# Altium footprint library 6U4dsp.PcbLib: 37 footprints (part 3 of 3)
Each footprint in its own frame and in the unit in brackets; x right, y up, seen from the top. Pads: shape width x height; smd on the part's side, far side on the other; paste and mask are expansions set on the pad; w line width, h text height; cw(c..) or ccw(c..) is an arc to the next point about the centre after c.
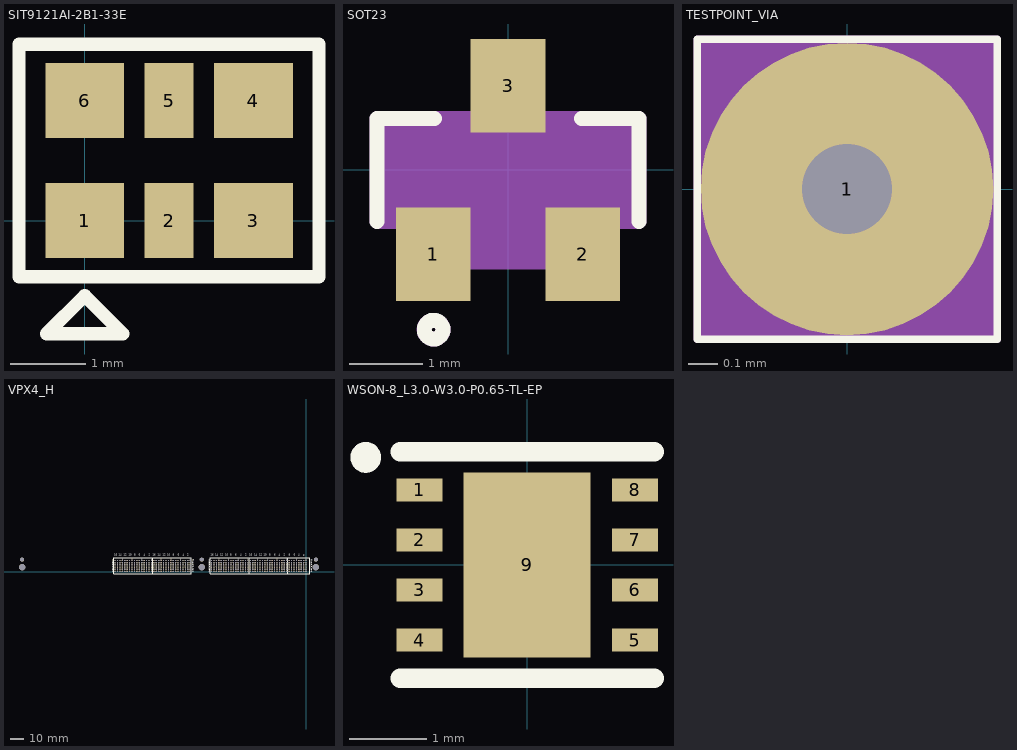
[diagram p2: the footprints below, top view; thin cyan lines are the x and y axes]

## SIT9121AI-2B1-33E [mm]
pads (6):
  rect 1.05x1 smd: 1(0,0) 3(2.25,0) 4(2.25,1.6) 6(0,1.6)
  rect 0.65x1 smd: 2(1.125,0) 5(1.125,1.6)
Top Overlay:
  lines w0.178: -0.875,-0.75 -0.875,2.35 3.125,2.35 3.125,-0.75 -0.875,-0.75 ; -0.508,-1.508 0,-1 0.508,-1.508 -0.508,-1.508

## SOT23 [mil] "SOT23"
pads (3):
  rect 40x50 smd: 1(-40,-45) 2(40,-45) 3(0,45)
Top Overlay:
  circle w8: c-39.8,-85.4 r5
  lines w8: -70,-27.6 -70,27.6 -39.4,27.6 ; 39.4,27.6 70,27.6 70,-27.6
Mechanical 5:
  lines w8: -70,-27.6 -70,27.6 -39.4,27.6 ; 39.4,27.6 70,27.6 70,-27.6 ; -44.8,-85.4 cw(c-39.8,-85.4) -39.8,-80.4 cw(c-39.8,-85.4) -34.8,-85.4 cw(c-39.8,-85.4) -39.8,-90.4 cw(c-39.8,-85.4) -44.8,-85.4
Mechanical 14:
  text "3" at 0,38.7 h15.75
  text "1" at -40,-51.3 h15.75
  text "2" at 40,-51.3 h15.75
Mechanical 16:
  region: -49.2,-49.2 -49.2,-27.6 -70,-27.6 -70,27.6 -11.8,27.6 -11.8,49.2 11.8,49.2 11.8,27.6 70,27.6 70,-27.6 49.2,-27.6 49.2,-49.2
  lines w8: -70,-27.6 -49.2,-27.6 -49.2,-49.2 49.2,-49.2 49.2,-27.6 70,-27.6 70,27.6 11.8,27.6 11.8,49.2 -11.8,49.2 -11.8,27.6 -70,27.6 -70,-27.6
3D body: height 150, standoff 0, extent -70,-49.2 70,49.2

## TESTPOINT_VIA [mil] "TESTPOINT_VIA"
pads (1):
  round 39 / inner round 20 / far side round 39 hole 12: 1(0,0)
Top Overlay:
  lines w1: -20,-20 20,-20 20,20 -20,20 -20,-20
Mechanical 5:
  lines w1: -20,-20 20,-20 20,20 -20,20 -20,-20
Mechanical 14:
  text "1" at 0,8 h20
Mechanical 16:
  pour cut-out: -20,-20 20,-20 20,20 -20,20
  region: -20,-20 20,-20 20,20 -20,20
  lines w1: -20,-20 20,-20 20,20 -20,20 -20,-20
3D body: height 150, standoff 0, extent -20,-20 20,20

## VPX4_H [mm]
pads (528):
  round 0.95 hole 0.45: P0_A1(0,0) P0_A2(-1.8,0) P0_A3(-3.6,0) P0_A4(-5.4,0) P0_A5(-7.2,0) P0_A6(-9,0) P0_A7(-10.8,0) P0_A8(-12.6,0) P0_B1(0,1.35) P0_B2(-1.8,1.35) P0_B3(-3.6,1.35) P0_B4(-5.4,1.35) P0_B5(-7.2,1.35) P0_B6(-9,1.35) P0_B7(-10.8,1.35) P0_B8(-12.6,1.35) P0_C1(0,2.7) P0_C2(-1.8,2.7) P0_C3(-3.6,2.7) P0_C4(-5.4,2.7) P0_C5(-7.2,2.7) P0_C6(-9,2.7) P0_C7(-10.8,2.7) P0_C8(-12.6,2.7) P0_D1(0,4.05) P0_D2(-1.8,4.05) P0_D3(-3.6,4.05) P0_D4(-5.4,4.05) P0_D5(-7.2,4.05) P0_D6(-9,4.05) P0_D7(-10.8,4.05) P0_D8(-12.6,4.05) P0_E1(0,5.4) P0_E2(-1.8,5.4) P0_E3(-3.6,5.4) P0_E4(-5.4,5.4) P0_E5(-7.2,5.4) P0_E6(-9,5.4) P0_E7(-10.8,5.4) P0_E8(-12.6,5.4) P0_F1(0,6.75) P0_F2(-1.8,6.75) P0_F3(-3.6,6.75) P0_F4(-5.4,6.75) P0_F5(-7.2,6.75) P0_F6(-9,6.75) P0_F7(-10.8,6.75) P0_F8(-12.6,6.75) P0_G1(0,8.1) P0_G2(-1.8,8.1) P0_G3(-3.6,8.1) P0_G4(-5.4,8.1) P0_G5(-7.2,8.1) P0_G6(-9,8.1) P0_G7(-10.8,8.1) P0_G8(-12.6,8.1) P1_A1(-14.4,0) P1_A2(-16.2,0) P1_A3(-18,0) P1_A4(-19.8,0) P1_A5(-21.6,0) P1_A6(-23.4,0) P1_A7(-25.2,0) P1_A8(-27,0) P1_A9(-28.8,0) P1_A10(-30.6,0) P1_A11(-32.4,0) P1_A12(-34.2,0) P1_A13(-36,0) P1_A14(-37.8,0) P1_A15(-39.6,0) P1_A16(-41.4,0) P1_B1(-14.4,1.35) P1_B2(-16.2,1.35) P1_B3(-18,1.35) P1_B4(-19.8,1.35) P1_B5(-21.6,1.35) P1_B6(-23.4,1.35) P1_B7(-25.2,1.35) P1_B8(-27,1.35) P1_B9(-28.8,1.35) P1_B10(-30.6,1.35) P1_B11(-32.4,1.35) P1_B12(-34.2,1.35) P1_B13(-36,1.35) P1_B14(-37.8,1.35) P1_B15(-39.6,1.35) P1_B16(-41.4,1.35) P1_C1(-14.4,2.7) P1_C2(-16.2,2.7) P1_C3(-18,2.7) P1_C4(-19.8,2.7) P1_C5(-21.6,2.7) P1_C6(-23.4,2.7) P1_C7(-25.2,2.7) P1_C8(-27,2.7) P1_C9(-28.8,2.7) P1_C10(-30.6,2.7) P1_C11(-32.4,2.7) P1_C12(-34.2,2.7) P1_C13(-36,2.7) P1_C14(-37.8,2.7) P1_C15(-39.6,2.7) P1_C16(-41.4,2.7) P1_D1(-14.4,4.05) P1_D2(-16.2,4.05) P1_D3(-18,4.05) P1_D4(-19.8,4.05) P1_D5(-21.6,4.05) P1_D6(-23.4,4.05) P1_D7(-25.2,4.05) P1_D8(-27,4.05) P1_D9(-28.8,4.05) P1_D10(-30.6,4.05) P1_D11(-32.4,4.05) P1_D12(-34.2,4.05) P1_D13(-36,4.05) P1_D14(-37.8,4.05) P1_D15(-39.6,4.05) P1_D16(-41.4,4.05) P1_E1(-14.4,5.4) P1_E2(-16.2,5.4) P1_E3(-18,5.4) P1_E4(-19.8,5.4) P1_E5(-21.6,5.4) P1_E6(-23.4,5.4) P1_E7(-25.2,5.4) P1_E8(-27,5.4) P1_E9(-28.8,5.4) P1_E10(-30.6,5.4) P1_E11(-32.4,5.4) P1_E12(-34.2,5.4) P1_E13(-36,5.4) P1_E14(-37.8,5.4) P1_E15(-39.6,5.4) P1_E16(-41.4,5.4) P1_F1(-14.4,6.75) P1_F2(-16.2,6.75) P1_F3(-18,6.75) P1_F4(-19.8,6.75) P1_F5(-21.6,6.75) P1_F6(-23.4,6.75) P1_F7(-25.2,6.75) P1_F8(-27,6.75) P1_F9(-28.8,6.75) P1_F10(-30.6,6.75) P1_F11(-32.4,6.75) P1_F12(-34.2,6.75) P1_F13(-36,6.75) P1_F14(-37.8,6.75) P1_F15(-39.6,6.75) P1_F16(-41.4,6.75) P1_G1(-14.4,8.1) P1_G2(-16.2,8.1) P1_G3(-18,8.1) P1_G4(-19.8,8.1) P1_G5(-21.6,8.1) P1_G6(-23.4,8.1) P1_G7(-25.2,8.1) P1_G8(-27,8.1) P1_G9(-28.8,8.1) P1_G10(-30.6,8.1) P1_G11(-32.4,8.1) P1_G12(-34.2,8.1) P1_G13(-36,8.1) P1_G14(-37.8,8.1) P1_G15(-39.6,8.1) P1_G16(-41.4,8.1) P2_A1(-43.2,0) P2_A2(-45,0) P2_A3(-46.8,0) P2_A4(-48.6,0) P2_A5(-50.4,0) P2_A6(-52.2,0) P2_A7(-54,0) P2_A8(-55.8,0) P2_A9(-57.6,0) P2_A10(-59.4,0) P2_A11(-61.2,0) P2_A12(-63,0) P2_A13(-64.8,0) P2_A14(-66.6,0) P2_A15(-68.4,0) P2_A16(-70.2,0) P2_B1(-43.2,1.35) P2_B2(-45,1.35) P2_B3(-46.8,1.35) P2_B4(-48.6,1.35) P2_B5(-50.4,1.35) P2_B6(-52.2,1.35) P2_B7(-54,1.35) P2_B8(-55.8,1.35) P2_B9(-57.6,1.35) P2_B10(-59.4,1.35) P2_B11(-61.2,1.35) P2_B12(-63,1.35) P2_B13(-64.8,1.35) P2_B14(-66.6,1.35) P2_B15(-68.4,1.35) P2_B16(-70.2,1.35) P2_C1(-43.2,2.7) P2_C2(-45,2.7) P2_C3(-46.8,2.7) P2_C4(-48.6,2.7) P2_C5(-50.4,2.7) P2_C6(-52.2,2.7) P2_C7(-54,2.7) P2_C8(-55.8,2.7) P2_C9(-57.6,2.7) P2_C10(-59.4,2.7) P2_C11(-61.2,2.7) P2_C12(-63,2.7) P2_C13(-64.8,2.7) P2_C14(-66.6,2.7) P2_C15(-68.4,2.7) P2_C16(-70.2,2.7) P2_D1(-43.2,4.05) P2_D2(-45,4.05) P2_D3(-46.8,4.05) P2_D4(-48.6,4.05) P2_D5(-50.4,4.05) P2_D6(-52.2,4.05) P2_D7(-54,4.05) P2_D8(-55.8,4.05) P2_D9(-57.6,4.05) P2_D10(-59.4,4.05) P2_D11(-61.2,4.05) P2_D12(-63,4.05) P2_D13(-64.8,4.05) P2_D14(-66.6,4.05) P2_D15(-68.4,4.05) P2_D16(-70.2,4.05) P2_E1(-43.2,5.4) P2_E2(-45,5.4) P2_E3(-46.8,5.4) P2_E4(-48.6,5.4) P2_E5(-50.4,5.4) P2_E6(-52.2,5.4) P2_E7(-54,5.4) P2_E8(-55.8,5.4) P2_E9(-57.6,5.4) P2_E10(-59.4,5.4) P2_E11(-61.2,5.4) P2_E12(-63,5.4) P2_E13(-64.8,5.4) P2_E14(-66.6,5.4) P2_E15(-68.4,5.4) P2_E16(-70.2,5.4) P2_F1(-43.2,6.75) P2_F2(-45,6.75) P2_F3(-46.8,6.75) P2_F4(-48.6,6.75) P2_F5(-50.4,6.75) P2_F6(-52.2,6.75) P2_F7(-54,6.75) P2_F8(-55.8,6.75) P2_F9(-57.6,6.75) P2_F10(-59.4,6.75) P2_F11(-61.2,6.75) P2_F12(-63,6.75) P2_F13(-64.8,6.75) P2_F14(-66.6,6.75) P2_F15(-68.4,6.75) P2_F16(-70.2,6.75) P2_G1(-43.2,8.1) P2_G2(-45,8.1) P2_G3(-46.8,8.1) P2_G4(-48.6,8.1) P2_G5(-50.4,8.1) P2_G6(-52.2,8.1) P2_G7(-54,8.1) P2_G8(-55.8,8.1) P2_G9(-57.6,8.1) P2_G10(-59.4,8.1) P2_G11(-61.2,8.1) P2_G12(-63,8.1) P2_G13(-64.8,8.1) P2_G14(-66.6,8.1) P2_G15(-68.4,8.1) P2_G16(-70.2,8.1) P3_A1(-86.02,0) P3_A2(-87.82,0) P3_A3(-89.62,0) P3_A4(-91.42,0) P3_A5(-93.22,0) P3_A6(-95.02,0) P3_A7(-96.82,0) P3_A8(-98.62,0) P3_A9(-100.42,0) P3_A10(-102.22,0) P3_A11(-104.02,0) P3_A12(-105.82,0) P3_A13(-107.62,0) P3_A14(-109.42,0) P3_A15(-111.22,0) P3_A16(-113.02,0) P3_B1(-86.02,1.35) P3_B2(-87.82,1.35) P3_B3(-89.62,1.35) P3_B4(-91.42,1.35) P3_B5(-93.22,1.35) P3_B6(-95.02,1.35) P3_B7(-96.82,1.35) P3_B8(-98.62,1.35) P3_B9(-100.42,1.35) P3_B10(-102.22,1.35) P3_B11(-104.02,1.35) P3_B12(-105.82,1.35) P3_B13(-107.62,1.35) P3_B14(-109.42,1.35) P3_B15(-111.22,1.35) P3_B16(-113.02,1.35) P3_C1(-86.02,2.7) P3_C2(-87.82,2.7) P3_C3(-89.62,2.7) P3_C4(-91.42,2.7) P3_C5(-93.22,2.7) P3_C6(-95.02,2.7) P3_C7(-96.82,2.7) P3_C8(-98.62,2.7) P3_C9(-100.42,2.7) P3_C10(-102.22,2.7) P3_C11(-104.02,2.7) P3_C12(-105.82,2.7) P3_C13(-107.62,2.7) P3_C14(-109.42,2.7) P3_C15(-111.22,2.7) P3_C16(-113.02,2.7) P3_D1(-86.02,4.05) P3_D2(-87.82,4.05) P3_D3(-89.62,4.05) P3_D4(-91.42,4.05) P3_D5(-93.22,4.05) P3_D6(-95.02,4.05) P3_D7(-96.82,4.05) P3_D8(-98.62,4.05) P3_D9(-100.42,4.05) P3_D10(-102.22,4.05) P3_D11(-104.02,4.05) P3_D12(-105.82,4.05) P3_D13(-107.62,4.05) P3_D14(-109.42,4.05) P3_D15(-111.22,4.05) P3_D16(-113.02,4.05) P3_E1(-86.02,5.4) P3_E2(-87.82,5.4) P3_E3(-89.62,5.4) P3_E4(-91.42,5.4) P3_E5(-93.22,5.4) P3_E6(-95.02,5.4) P3_E7(-96.82,5.4) P3_E8(-98.62,5.4) P3_E9(-100.42,5.4) P3_E10(-102.22,5.4) P3_E11(-104.02,5.4) P3_E12(-105.82,5.4) P3_E13(-107.62,5.4) P3_E14(-109.42,5.4) P3_E15(-111.22,5.4) P3_E16(-113.02,5.4) P3_F1(-86.02,6.75) P3_F2(-87.82,6.75) P3_F3(-89.62,6.75) P3_F4(-91.42,6.75) P3_F5(-93.22,6.75) P3_F6(-95.02,6.75) P3_F7(-96.82,6.75) P3_F8(-98.62,6.75) P3_F9(-100.42,6.75) P3_F10(-102.22,6.75) P3_F11(-104.02,6.75) P3_F12(-105.82,6.75) P3_F13(-107.62,6.75) P3_F14(-109.42,6.75) P3_F15(-111.22,6.75) P3_F16(-113.02,6.75) P3_G1(-86.02,8.1) P3_G2(-87.82,8.1) P3_G3(-89.62,8.1) P3_G4(-91.42,8.1) P3_G5(-93.22,8.1) P3_G6(-95.02,8.1) P3_G7(-96.82,8.1) P3_G8(-98.62,8.1) P3_G9(-100.42,8.1) P3_G10(-102.22,8.1) P3_G11(-104.02,8.1) P3_G12(-105.82,8.1) P3_G13(-107.62,8.1) P3_G14(-109.42,8.1) P3_G15(-111.22,8.1) P3_G16(-113.02,8.1) P4_A1(-114.82,0) P4_A2(-116.62,0) P4_A3(-118.42,0) P4_A4(-120.22,0) P4_A5(-122.02,0) P4_A6(-123.82,0) P4_A7(-125.62,0) P4_A8(-127.42,0) P4_A9(-129.22,0) P4_A10(-131.02,0) P4_A11(-132.82,0) P4_A12(-134.62,0) P4_A13(-136.42,0) P4_A14(-138.22,0) P4_A15(-140.02,0) P4_A16(-141.82,0) P4_B1(-114.82,1.35) P4_B2(-116.62,1.35) P4_B3(-118.42,1.35) P4_B4(-120.22,1.35) P4_B5(-122.02,1.35) P4_B6(-123.82,1.35) P4_B7(-125.62,1.35) P4_B8(-127.42,1.35) P4_B9(-129.22,1.35) P4_B10(-131.02,1.35) P4_B11(-132.82,1.35) P4_B12(-134.62,1.35) P4_B13(-136.42,1.35) P4_B14(-138.22,1.35) P4_B15(-140.02,1.35) P4_B16(-141.82,1.35) P4_C1(-114.82,2.7) P4_C2(-116.62,2.7) P4_C3(-118.42,2.7) P4_C4(-120.22,2.7) P4_C5(-122.02,2.7) P4_C6(-123.82,2.7) P4_C7(-125.62,2.7) P4_C8(-127.42,2.7) P4_C9(-129.22,2.7) P4_C10(-131.02,2.7) P4_C11(-132.82,2.7) P4_C12(-134.62,2.7) P4_C13(-136.42,2.7) P4_C14(-138.22,2.7) P4_C15(-140.02,2.7) P4_C16(-141.82,2.7) P4_D1(-114.82,4.05) P4_D2(-116.62,4.05) P4_D3(-118.42,4.05) P4_D4(-120.22,4.05) P4_D5(-122.02,4.05) P4_D6(-123.82,4.05) P4_D7(-125.62,4.05) P4_D8(-127.42,4.05) P4_D9(-129.22,4.05) P4_D10(-131.02,4.05) P4_D11(-132.82,4.05) P4_D12(-134.62,4.05) P4_D13(-136.42,4.05) P4_D14(-138.22,4.05) P4_D15(-140.02,4.05) P4_D16(-141.82,4.05) P4_E1(-114.82,5.4) P4_E2(-116.62,5.4) P4_E3(-118.42,5.4) P4_E4(-120.22,5.4) P4_E5(-122.02,5.4) P4_E6(-123.82,5.4) P4_E7(-125.62,5.4) P4_E8(-127.42,5.4) P4_E9(-129.22,5.4) P4_E10(-131.02,5.4) P4_E11(-132.82,5.4) P4_E12(-134.62,5.4) P4_E13(-136.42,5.4) P4_E14(-138.22,5.4) P4_E15(-140.02,5.4) P4_E16(-141.82,5.4) P4_F1(-114.82,6.75) P4_F2(-116.62,6.75) P4_F3(-118.42,6.75) P4_F4(-120.22,6.75) P4_F5(-122.02,6.75) P4_F6(-123.82,6.75) P4_F7(-125.62,6.75) P4_F8(-127.42,6.75) P4_F9(-129.22,6.75) P4_F10(-131.02,6.75) P4_F11(-132.82,6.75) P4_F12(-134.62,6.75) P4_F13(-136.42,6.75) P4_F14(-138.22,6.75) P4_F15(-140.02,6.75) P4_F16(-141.82,6.75) P4_G1(-114.82,8.1) P4_G2(-116.62,8.1) P4_G3(-118.42,8.1) P4_G4(-120.22,8.1) P4_G5(-122.02,8.1) P4_G6(-123.82,8.1) P4_G7(-125.62,8.1) P4_G8(-127.42,8.1) P4_G9(-129.22,8.1) P4_G10(-131.02,8.1) P4_G11(-132.82,8.1) P4_G12(-134.62,8.1) P4_G13(-136.42,8.1) P4_G14(-138.22,8.1) P4_G15(-140.02,8.1) P4_G16(-141.82,8.1)
  round 4.65 hole 4.65: ""(-210.8,3.25) ""(-77.45,3.25) ""(7.25,3.25)
  round 3 hole 3: ""(-210.8,8.75) ""(-77.45,8.75) ""(7.25,8.75)
  round 0.6 hole 0.6: ""(-136.42,9.35) ""(-129.22,9.35) ""(-122.02,9.35) ""(-114.82,9.35) ""(-107.62,9.35) ""(-100.42,9.35) ""(-93.22,9.35) ""(-86.02,9.35) ""(-64.8,9.35) ""(-57.6,9.35) ""(-50.4,9.35) ""(-43.2,9.35) ""(-36,9.35) ""(-28.8,9.35) ""(-21.6,9.35) ""(-14.4,9.35) ""(-7.2,9.35) ""(0,9.35)
Top Overlay:
  lines w0.254: -142.66,-1.5 -142.66,10.31 -113.98,10.31 -113.98,-1.5 -142.66,-1.5 ; -113.86,-1.5 -113.86,10.31 -85.18,10.31 -85.18,-1.5 -113.86,-1.5 ; -71.04,-1.5 -71.04,10.31 -42.36,10.31 -42.36,-1.5 -71.04,-1.5 ; -42.24,-1.5 -42.24,10.31 -13.56,10.31 -13.56,-1.5 -42.24,-1.5 ; -13.44,-1.5 -13.44,10.31 2.64,10.31 2.64,-1.5 -13.44,-1.5
  text "F" at -72.333,6.25 h1
  text "E" at -72.333,4.9 h1
  text "D" at -72.333,3.55 h1
  text "C" at -72.333,2.2 h1
  text "G" at -72.333,7.6 h1
  text "A" at -72.333,-0.5 h1
  text "B" at -72.333,0.85 h1
  text "B" at -84.553,0.85 h1
  text "A" at -84.553,-0.5 h1
  text "G" at -84.553,7.6 h1
  text "C" at -84.553,2.2 h1
  text "D" at -84.553,3.55 h1
  text "E" at -84.553,4.9 h1
  text "F" at -84.553,6.25 h1
  text "F" at 3.267,6.25 h1
  text "E" at 3.267,4.9 h1
  text "D" at 3.267,3.55 h1
  text "C" at 3.267,2.2 h1
  text "G" at 3.267,7.6 h1
  text "A" at 3.267,-0.5 h1
  text "B" at 3.267,0.85 h1
  text "6" at -9.333,11.65 h1
  text "8" at -12.933,11.65 h1
  text "4" at -5.733,11.65 h1
  text "2" at -1.961,11.378 h1
  text "14" at -38.55,11.65 h1
  text "16" at -42.15,11.65 h1
  text "12" at -34.95,11.65 h1
  text "10" at -31.35,11.65 h1
  text "2" at -16.533,11.65 h1
  text "4" at -20.133,11.65 h1
  text "8" at -27.333,11.65 h1
  text "6" at -23.733,11.65 h1
  text "14" at -67.35,11.65 h1
  text "16" at -70.95,11.65 h1
  text "12" at -63.75,11.65 h1
  text "10" at -60.15,11.65 h1
  text "2" at -45.333,11.65 h1
  text "4" at -48.933,11.65 h1
  text "8" at -56.133,11.65 h1
  text "6" at -52.533,11.65 h1
  text "14" at -110.17,11.65 h1
  text "16" at -113.77,11.65 h1
  text "12" at -106.57,11.65 h1
  text "10" at -102.97,11.65 h1
  text "2" at -88.153,11.65 h1
  text "4" at -91.753,11.65 h1
  text "8" at -98.953,11.65 h1
  text "6" at -95.353,11.65 h1
  text "14" at -138.97,11.65 h1
  text "16" at -142.57,11.65 h1
  text "12" at -135.37,11.65 h1
  text "10" at -131.77,11.65 h1
  text "2" at -116.953,11.65 h1
  text "4" at -120.553,11.65 h1
  text "8" at -127.753,11.65 h1
  text "6" at -124.153,11.65 h1
  text "B" at -143.953,0.85 h1
  text "A" at -143.953,-0.5 h1
  text "G" at -143.953,7.6 h1
  text "C" at -143.953,2.2 h1
  text "D" at -143.953,3.55 h1
  text "E" at -143.953,4.9 h1
  text "F" at -143.953,6.25 h1
Bottom Overlay:
  text "F" at -71.667,6.25 h1
  text "E" at -71.667,4.9 h1
  text "D" at -71.667,3.55 h1
  text "C" at -71.667,2.2 h1
  text "G" at -71.667,7.6 h1
  text "A" at -71.667,-0.5 h1
  text "B" at -71.667,0.85 h1
  text "B" at -83.887,0.85 h1
  text "A" at -83.887,-0.5 h1
  text "G" at -83.887,7.6 h1
  text "C" at -83.887,2.2 h1
  text "D" at -83.887,3.55 h1
  text "E" at -83.887,4.9 h1
  text "F" at -83.887,6.25 h1
  text "6" at -8.667,11.65 h1
  text "8" at -12.267,11.65 h1
  text "4" at -5.067,11.65 h1
  text "2" at -1.467,11.65 h1
  text "F" at 3.933,6.25 h1
  text "E" at 3.933,4.9 h1
  text "D" at 3.933,3.55 h1
  text "C" at 3.933,2.2 h1
  text "G" at 3.933,7.6 h1
  text "A" at 3.933,-0.5 h1
  text "B" at 3.933,0.85 h1
  text "2" at -15.867,11.65 h1
  text "4" at -19.467,11.65 h1
  text "8" at -26.667,11.65 h1
  text "6" at -23.067,11.65 h1
  text "10" at -29.85,11.65 h1
  text "12" at -33.45,11.65 h1
  text "14" at -37.05,11.65 h1
  text "16" at -40.65,11.65 h1
  text "2" at -44.667,11.65 h1
  text "4" at -48.267,11.65 h1
  text "8" at -55.467,11.65 h1
  text "6" at -51.867,11.65 h1
  text "10" at -58.65,11.65 h1
  text "12" at -62.25,11.65 h1
  text "14" at -65.85,11.65 h1
  text "16" at -69.45,11.65 h1
  text "2" at -87.487,11.65 h1
  text "4" at -91.087,11.65 h1
  text "8" at -98.287,11.65 h1
  text "6" at -94.687,11.65 h1
  text "10" at -101.47,11.65 h1
  text "12" at -105.07,11.65 h1
  text "14" at -108.67,11.65 h1
  text "16" at -112.27,11.65 h1
  text "2" at -116.287,11.65 h1
  text "4" at -119.887,11.65 h1
  text "8" at -127.087,11.65 h1
  text "6" at -123.487,11.65 h1
  text "10" at -130.27,11.65 h1
  text "12" at -133.87,11.65 h1
  text "14" at -137.47,11.65 h1
  text "16" at -141.07,11.65 h1
  text "B" at -143.287,0.85 h1
  text "A" at -143.287,-0.5 h1
  text "G" at -143.287,7.6 h1
  text "C" at -143.287,2.2 h1
  text "D" at -143.287,3.55 h1
  text "E" at -143.287,4.9 h1
  text "F" at -143.287,6.25 h1

## WSON-8_L3.0-W3.0-P0.65-TL-EP [mm]
pads (9):
  rect 0.6x0.3 smd: 1(-1.4,0.975) 2(-1.4,0.325) 3(-1.4,-0.325) 4(-1.4,-0.975) 5(1.4,-0.975) 6(1.4,-0.325) 7(1.4,0.325) 8(1.4,0.975)
  rect 1.65x2.4 smd: 9(0,0)
Top Overlay:
  lines w0.2: -1.999,1.397 cw(c-2.099,1.398) -1.999,1.4
  lines w0.254: -1.651,-1.473 1.649,-1.473 ; -1.649,1.473 1.651,1.473